# EAGLE library part SEG4X7 (library 7SEGx3)
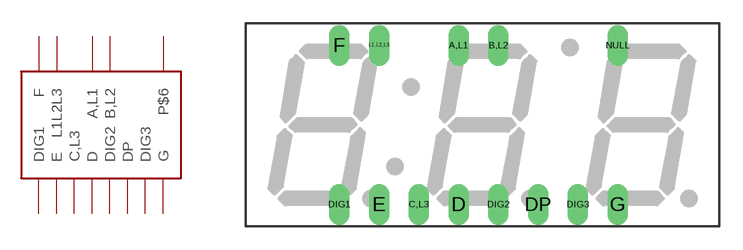
[diagram p1: symbol with the pads of HDSP-R; footprint HDSP-R]

Designator prefix -

## SEG4X7  [HDSP-R]
A,L1  A,L1
B,L2  B,L2
C,L3  C,L3
D  D
DIG1  DIG1
DIG2  DIG2
DIG3  DIG3
DP  DP
E  E
F  F
G  G
L1,L2,L3  L1L2L3
NULL  P$6

## Footprint HDSP-R (pad centres in mm)
LED DISPLAY 10-mm 4 character 7 segment, decimal point right
drill 0.813 long: A,L1 -6.604,5.08; B,L2 -4.064,5.08; C,L3 -9.144,-5.08; D -6.604,-5.08; DIG1 -14.224,-5.08; DIG2 -4.064,-5.08; DIG3 1.016,-5.08; DP -1.524,-5.08; E -11.684,-5.08; F -14.224,5.08; G 3.556,-5.08; L1,L2,L3 -11.684,5.08; NULL 3.556,5.08